# EAGLE library part TEXAS_INSTRUMENTS-3PHASE_MOTOR_DRIVER-DRV8353SM (library Module_ICs)
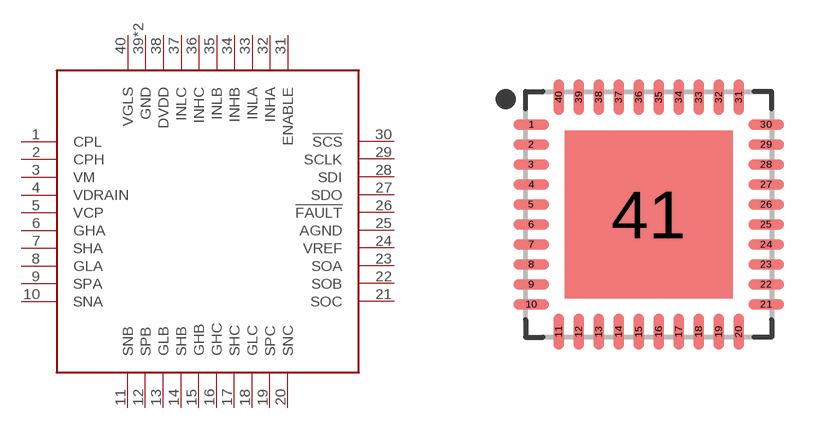
[diagram p64: symbol with the pads of TEXAS_INSTRUMENTS-3PHASE_MOTOR_DRIVER-DRV8353XM; footprint TEXAS_INSTRUMENTS-3PHASE_MOTOR_DRIVER-DRV8353XM]

Designator prefix U

## TEXAS_INSTRUMENTS-3PHASE_MOTOR_DRIVER-DRV8353SM  [TEXAS_INSTRUMENTS-3PHASE_MOTOR_DRIVER-DRV8353XM]
1  CPL
2  CPH
3  VM
4  VDRAIN
5  VCP
6  GHA
7  SHA
8  GLA
9  SPA
10  SNA
11  SNB
12  SPB
13  GLB
14  SHB
15  GHB
16  GHC
17  SHC
18  GLC
19  SPC
20  SNC
21  SOC
22  SOB
23  SOA
24  VREF
25  AGND
26  !FAULT
27  SDO
28  SDI
29  SCLK
30  !SCS
31  ENABLE
32  INHA
33  INLA
34  INHB
35  INLB
36  INHC
37  INLC
38  DVDD
39  GND
40  VGLS
41  GND

## Footprint TEXAS_INSTRUMENTS-3PHASE_MOTOR_DRIVER-DRV8353XM (pad centres in mm)
40-QFN, 0.50 mm pitch, 6.00 X 6.00 X 0.80 mm body, 4.20 X 4.20 mm thermal pad 40-pin QFN package with 0.50 mm pitch with body size 6.00 X 6.00 X 0.80 mm and thermal pad size 4.20 X 4.20 mm
smd 0.896 x 0.264: 1 -2.937,2.25; 2 -2.937,1.75; 3 -2.937,1.25; 4 -2.937,0.75; 5 -2.937,0.25; 6 -2.937,-0.25; 7 -2.937,-0.75; 8 -2.937,-1.25; 9 -2.937,-1.75; 10 -2.937,-2.25; 21 2.937,-2.25; 22 2.937,-1.75; 23 2.937,-1.25; 24 2.937,-0.75; 25 2.937,-0.25; 26 2.937,0.25; 27 2.937,0.75; 28 2.937,1.25; 29 2.937,1.75; 30 2.937,2.25
smd 0.264 x 0.896: 11 -2.25,-2.937; 12 -1.75,-2.937; 13 -1.25,-2.937; 14 -0.75,-2.937; 15 -0.25,-2.937; 16 0.25,-2.937; 17 0.75,-2.937; 18 1.25,-2.937; 19 1.75,-2.937; 20 2.25,-2.937; 31 2.25,2.937; 32 1.75,2.937; 33 1.25,2.937; 34 0.75,2.937; 35 0.25,2.937; 36 -0.25,2.937; 37 -0.75,2.937; 38 -1.25,2.937; 39 -1.75,2.937; 40 -2.25,2.937
smd 4.2 x 4.2: 41 0,0